# Altium schematic symbol library Schlib_Central_Semiconductor.SchLib: 1 symbol
Pins are listed as number, name and electrical type; pins without a type are passive.

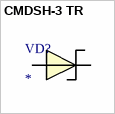
[diagram p0: symbol CMDSH-3 TR]

## CMDSH-3 TR
designator VD?
Diode Schottky 30V 100mA; PartNumber: CMDSH-3 TR; Voltage - Forward (Vf) (Max) @ If: 800mV @ 100mA; Capacitance @ Vr, F: 7pF @ 10V, 1MHz; Package: SOD-323; Voltage - DC Reverse (Vr) (Max): 30V; Current - Average Rectified (Io): 100mA
footprint SOD-323
pins: 1 A, 2 C